# Altium footprint library BuranComponent.PcbLib: 2 footprints
Each footprint in its own frame and in the unit in brackets; x right, y up, seen from the top. Pads: shape width x height; smd on the part's side, far side on the other; paste and mask are expansions set on the pad; w line width, h text height; cw(c..) or ccw(c..) is an arc to the next point about the centre after c.
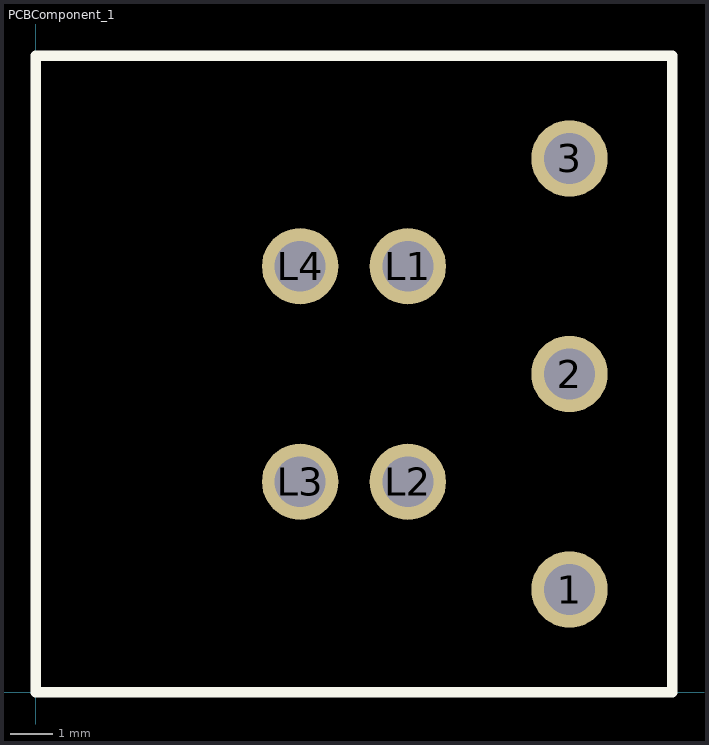
[diagram p0: the footprints below, top view; thin cyan lines are the x and y axes]

## PCBComponent_1 [mm]
pads (7):
  round 1.8 hole 1.2: 1(12.58,2.42) 2(12.58,7.5) L1(8.77,10.04) L2(8.77,4.96) L3(6.23,4.96) L4(6.23,10.04)
  round 1.8 / inner round 1.524 / far side round 1.524 hole 1.2: 3(12.58,12.58)
Top Overlay:
  lines w0.254: 0,0 0,15 15,15 15,0 0,0

## PCBComponent_1 - duplicate [mm]